# EAGLE library part WS6318 (library X893)
http://www.sierrawireless.com/en/sitecore/content/Sierra%20Wireless/Support/Downloads/AirPrime/WS_Series/AirPrime_WS6318.aspx
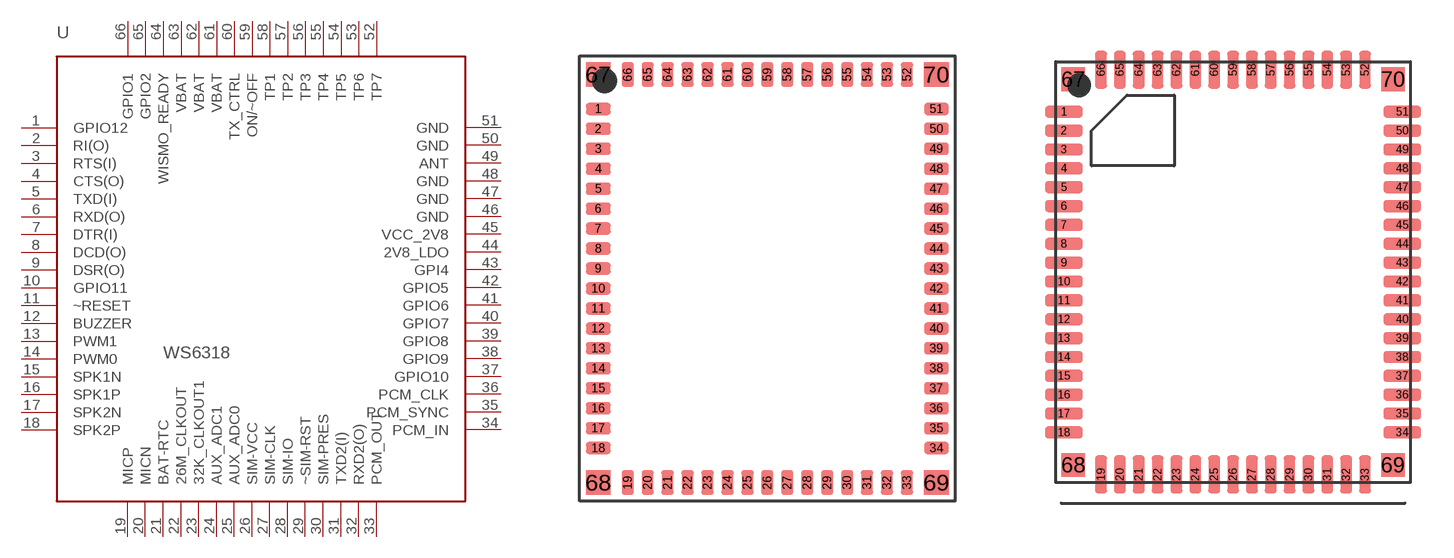
[diagram p148: symbol with the pads of WS6318; footprints WS6318, WS6318-OUT]

Designator prefix U

## WS6318  [WS6318]
1  GPIO12
2  RI(O)  out
3  RTS(I)  in
4  CTS(O)  out
5  TXD(I)  in
6  RXD(O)  out
7  DTR(I)  in
8  DCD(O)  out
9  DSR(O)  out
10  GPIO11
11  ~RESET  in
12  BUZZER  out
13  PWM1  out
14  PWM0  out
15  SPK1N  pas
16  SPK1P  pas
17  SPK2N  pas
18  SPK2P  pas
19  MICP  pas
20  MICN  pas
21  BAT-RTC  pas
22  26M_CLKOUT  out
23  32K_CLKOUT1  out
24  AUX_ADC1  in
25  AUX_ADC0  in
26  SIM-VCC  pas
27  SIM-CLK  out
28  SIM-IO
29  ~SIM-RST  out
30  SIM-PRES  in
31  TXD2(I)  in
32  RXD2(O)  out
33  PCM_OUT  out
34  PCM_IN  in
35  PCM_SYNC
36  PCM_CLK
37  GPIO10
38  GPIO9
39  GPIO8
40  GPIO7
41  GPIO6
42  GPIO5
43  GPI4
44  2V8_LDO  pas
45  VCC_2V8  pas
46  GND  pwr
47  GND  pwr
48  GND  pwr
49  ANT  pas
50  GND  pwr
51  GND  pwr
52  TP7  out
53  TP6  out
54  TP5  in
55  TP4  in
56  TP3  in
57  TP2  out
58  TP1  in
59  ON/~OFF  in
60  TX_CTRL  out
61  VBAT  in
62  VBAT  in
63  VBAT  in
64  WISMO_READY  out
65  GPIO2
66  GPIO1
67  GND  pwr
68  GND  pwr
69  GND  pwr
70  GND  pwr

## WS6318-EX  [WS6318-OUT]
Pads as for WS6318

## Footprint WS6318 (pad centres in mm)
smd 1 x 0.5: 1 -6.78,6.8; 2 -6.78,6; 3 -6.78,5.2; 4 -6.78,4.4; 5 -6.78,3.6; 6 -6.78,2.8; 7 -6.78,2; 8 -6.78,1.2; 9 -6.78,0.4; 10 -6.78,-0.4; 11 -6.78,-1.2; 12 -6.78,-2; 13 -6.78,-2.8; 14 -6.78,-3.6; 15 -6.78,-4.4; 16 -6.78,-5.2; 17 -6.78,-6; 18 -6.78,-6.8; 34 6.78,-6.8; 35 6.78,-6; 36 6.78,-5.2; 37 6.78,-4.4; 38 6.78,-3.6; 39 6.78,-2.8; 40 6.78,-2; 41 6.78,-1.2; 42 6.78,-0.4; 43 6.78,0.4; 44 6.78,1.2; 45 6.78,2; 46 6.78,2.8; 47 6.78,3.6; 48 6.78,4.4; 49 6.78,5.2; 50 6.78,6; 51 6.78,6.8
smd 0.5 x 1: 19 -5.6,-8.18; 20 -4.8,-8.18; 21 -4,-8.18; 22 -3.2,-8.18; 23 -2.4,-8.18; 24 -1.6,-8.18; 25 -0.8,-8.18; 26 0,-8.18; 27 0.8,-8.18; 28 1.6,-8.18; 29 2.4,-8.18; 30 3.2,-8.18; 31 4,-8.18; 32 4.8,-8.18; 33 5.6,-8.18; 52 5.6,8.18; 53 4.8,8.18; 54 4,8.18; 55 3.2,8.18; 56 2.4,8.18; 57 1.6,8.18; 58 0.8,8.18; 59 0,8.18; 60 -0.8,8.18; 61 -1.6,8.18; 62 -2.4,8.18; 63 -3.2,8.18; 64 -4,8.18; 65 -4.8,8.18; 66 -5.6,8.18
smd 1 x 1: 67 -6.78,8.18; 68 -6.78,-8.18; 69 6.78,-8.18; 70 6.78,8.18

## Footprint WS6318-OUT (pad centres in mm)
smd 1.6 x 0.5: 1 -7.175,6.8; 2 -7.175,6; 3 -7.175,5.2; 4 -7.175,4.4; 5 -7.175,3.6; 6 -7.175,2.8; 7 -7.175,2; 8 -7.175,1.2; 9 -7.175,0.4; 10 -7.175,-0.4; 11 -7.175,-1.2; 12 -7.175,-2; 13 -7.175,-2.8; 14 -7.175,-3.6; 15 -7.175,-4.4; 16 -7.175,-5.2; 17 -7.175,-6; 18 -7.175,-6.8; 34 7.18,-6.8; 35 7.18,-6; 36 7.18,-5.2; 37 7.18,-4.4; 38 7.18,-3.6; 39 7.18,-2.8; 40 7.18,-2; 41 7.18,-1.2; 42 7.18,-0.4; 43 7.18,0.4; 44 7.18,1.2; 45 7.18,2; 46 7.18,2.8; 47 7.18,3.6; 48 7.18,4.4; 49 7.18,5.2; 50 7.18,6; 51 7.18,6.8
smd 0.5 x 1.6: 19 -5.6,-8.58; 20 -4.8,-8.58; 21 -4,-8.58; 22 -3.2,-8.58; 23 -2.4,-8.58; 24 -1.6,-8.58; 25 -0.8,-8.58; 26 0,-8.58; 27 0.8,-8.58; 28 1.6,-8.58; 29 2.4,-8.58; 30 3.2,-8.58; 31 4,-8.58; 32 4.8,-8.58; 33 5.6,-8.58; 52 5.6,8.58; 53 4.8,8.58; 54 4,8.58; 55 3.2,8.58; 56 2.4,8.58; 57 1.6,8.58; 58 0.8,8.58; 59 0,8.58; 60 -0.8,8.58; 61 -1.6,8.58; 62 -2.4,8.58; 63 -3.2,8.58; 64 -4,8.58; 65 -4.8,8.58; 66 -5.6,8.58
smd 1 x 1: 67 -6.78,8.18; 68 -6.78,-8.18; 69 6.78,-8.18; 70 6.78,8.18